# Altium footprint library capacitors.PcbLib: 3 footprints
Each footprint in its own frame and in the unit in brackets; x right, y up, seen from the top. Pads: shape width x height; smd on the part's side, far side on the other; paste and mask are expansions set on the pad; w line width, h text height; cw(c..) or ccw(c..) is an arc to the next point about the centre after c.
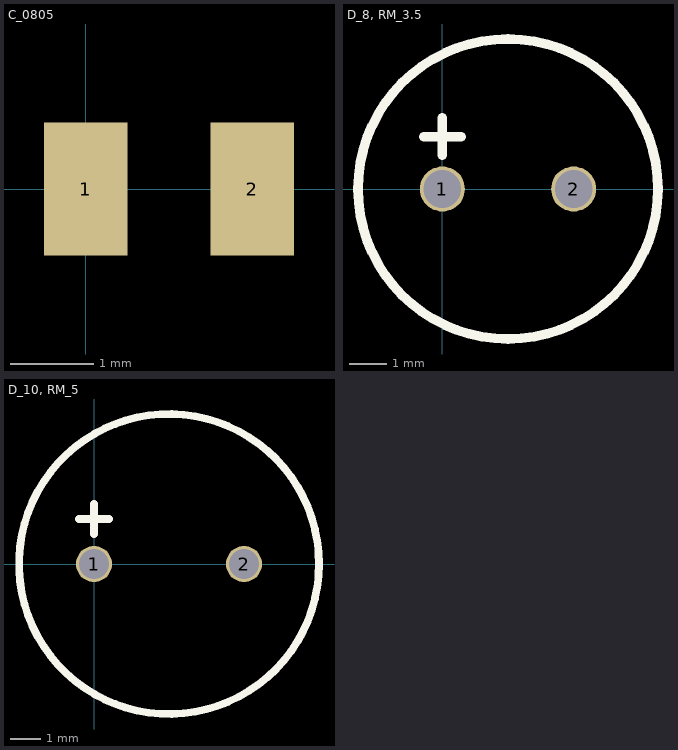
[diagram p0: the footprints below, top view; thin cyan lines are the x and y axes]

## C_0805 [mm]
pads (2):
  rect 1x1.6 smd: 1(0,0) 2(2,0)
3D body: height 0.78, standoff 0, extent 0.016,-0.625 2.016,0.625

## D_8, RM_3.5 [mm]
pads (2):
  round 1.2 hole 1: 1(0,0) 2(3.5,0)
Top Overlay:
  circle w0.254: c1.75,0 r4
  lines w0.254: -0.5,1.397 0.5,1.397 ; 0,0.897 0,1.897
3D body: height 12.5, standoff -3, extent -2.25,-4 5.75,4

## D_10, RM_5 [mm]
pads (2):
  round 1.2 hole 1: 1(0,0) 2(5,0)
Top Overlay:
  circle w0.254: c2.5,0 r5
  lines w0.254: -0.5,1.5 0.5,1.5 ; 0,1 0,2
3D body: height 13.5, standoff -3, extent -2.5,-5 7.5,5